# Altium footprint library KK Connectors.PcbLib: 3 footprints
Each footprint in its own frame and in the unit in brackets; x right, y up, seen from the top. Pads: shape width x height; smd on the part's side, far side on the other; paste and mask are expansions set on the pad; w line width, h text height; cw(c..) or ccw(c..) is an arc to the next point about the centre after c.
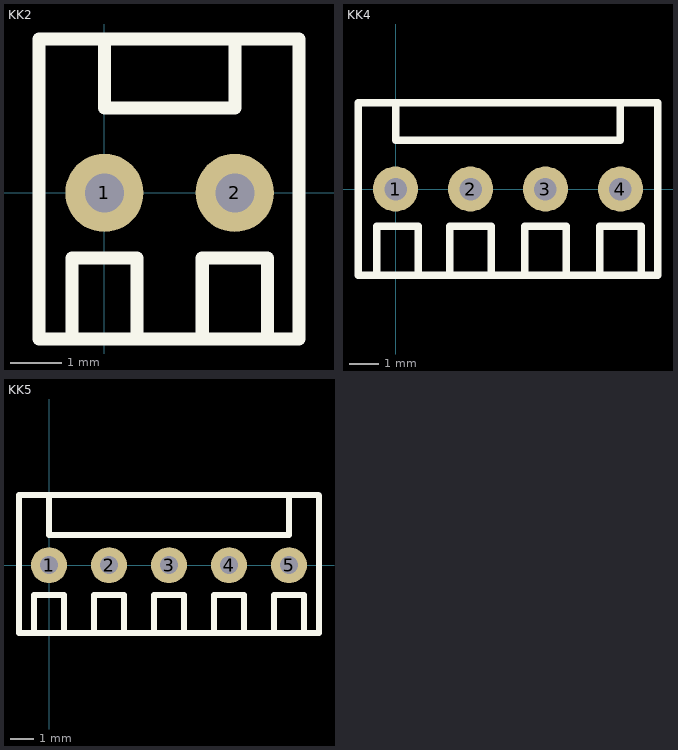
[diagram p0: the footprints below, top view; thin cyan lines are the x and y axes]

## KK2 [mil] "KK Conector, 2 ways"
pads (2):
  round 60 hole 30: 1(0,0) 2(100,0)
Top Overlay:
  lines w10: -25,-112 -25,-50 25,-50 25,-112 75,-112 75,-50 125,-50 125,-112 ; 0,118 0,65 100,65 100,118 ; -50,-112 149,-112 149,118 -50,118 -50,72 -50,-112
3D body "KK2.STEP": height 467.5, standoff -132.5, extent -50,-116 150,114

## KK4 [mil] "KK Conector, 4 ways"
pads (4):
  round 60 hole 30: 1(0,0) 2(100,0) 3(200,0) 4(300,0)
Top Overlay:
  lines w10: -25,-115 -25,-50 30,-50 30,-115 ; 0,110 0,65 300,65 300,115 ; 72.5,-115 72.5,-50 127.5,-50 127.5,-115 ; 172.5,-115 172.5,-50 227.5,-50 227.5,-115 ; 272.5,-115 272.5,-50 327.5,-50 327.5,-115 ; -50,-115 -50,115 350,115 350,-115 -50,-115
3D body "KK4.STEP": height 467.5, standoff -132.5, extent -49.99,-116.99 350.01,113.01

## KK5 [mil] "KK Conector, 5 ways"
pads (5):
  round 60 hole 30: 1(0,0) 2(100,0) 3(200,0) 4(300,0) 5(400,0)
Top Overlay:
  lines w10: -25,-113 -25,-50 25,-50 25,-110 ; 75,-113 75,-50 125,-50 125,-110 ; 175,-113 175,-50 225,-50 225,-110 ; 275,-113 275,-50 325,-50 325,-110 ; 375,-113 375,-50 425,-50 425,-110 ; 400,117 400,50 0,50 0,75.25 ; 0,75.25 0,117 0,75.25 ; -50,-113 -50,117 449,117 450,116 450,-113 -50,-113
3D body "KK5.STEP": height 467.5, standoff -132.5, extent -50,-117 450,113